# Altium schematic symbol library Schlib1_Symbol.SchLib: 3 symbols
Pins are listed as number, name and electrical type; pins without a type are passive.

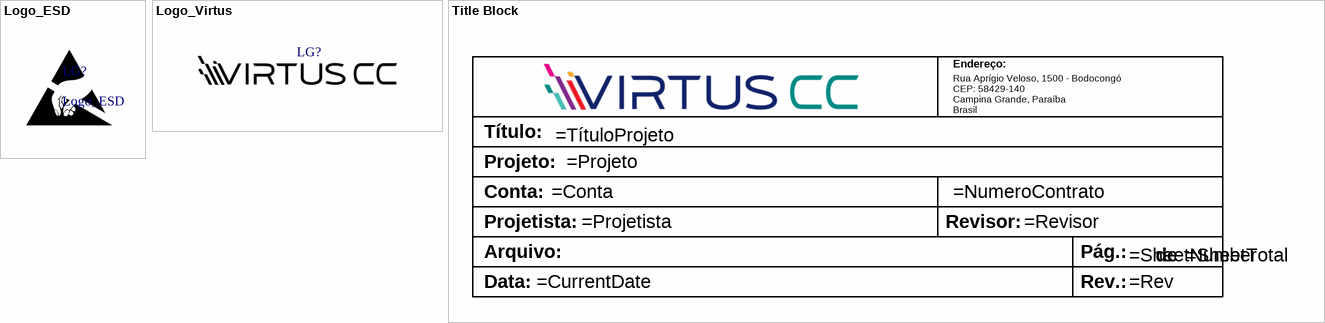
[diagram p0: symbols Logo_ESD to Title Block]

## Logo_ESD
designator LG?  (graphical)
footprint Logo_esd

## Logo_Virtus
designator LG?  (value not drawn)
footprint Logo_VirtusCC

## Title Block
designator TB?  (value not drawn)  (graphical)
text: Endereço:; Type @ to refer to a designator; Rua Aprígio Veloso, 1500 - Bodocongó / CEP: 58429-140 / Campina Grande, Paraíba / Brasil; Título:; Projeto:; Conta:; Projetista:; Revisor:; Arquivo:; Pág.:; de; Data:; Rev.: